# EAGLE library part JTAG (library EXCISS)
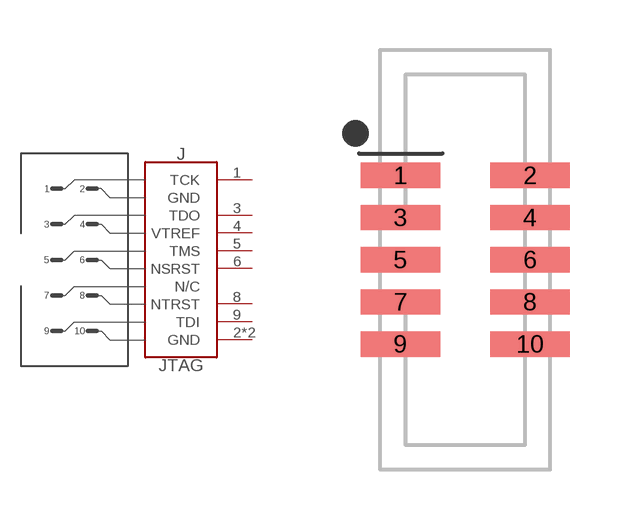
[diagram p11: symbol with the pads of 20021521-00010T1LF; footprint 20021521-00010T1LF]

Designator prefix J

## JTAG (OC_MOUSER: 649-200215210010T1LF)  [20021521-00010T1LF]
1  TCK
2  GND  pwr
3  TDO
4  VTREF
5  TMS
6  NSRST  pwr
8  NTRST
9  TDI
10  GND  pwr

## Footprint 20021521-00010T1LF (pad centres in mm)
smd 2.4 x 0.76: 1 -1.95,2.54; 2 1.95,2.54; 3 -1.95,1.27; 4 1.95,1.27; 5 -1.95,0; 6 1.95,0; 7 -1.95,-1.27; 8 1.95,-1.27; 9 -1.95,-2.54; 10 1.95,-2.54